# EAGLE library part TOUCH-CAT_CHIP-TOUCH-CAT (library Touch.Cat)
Copyrights: www.chip-brain.com If modified stay original creator www.chip-brain.com
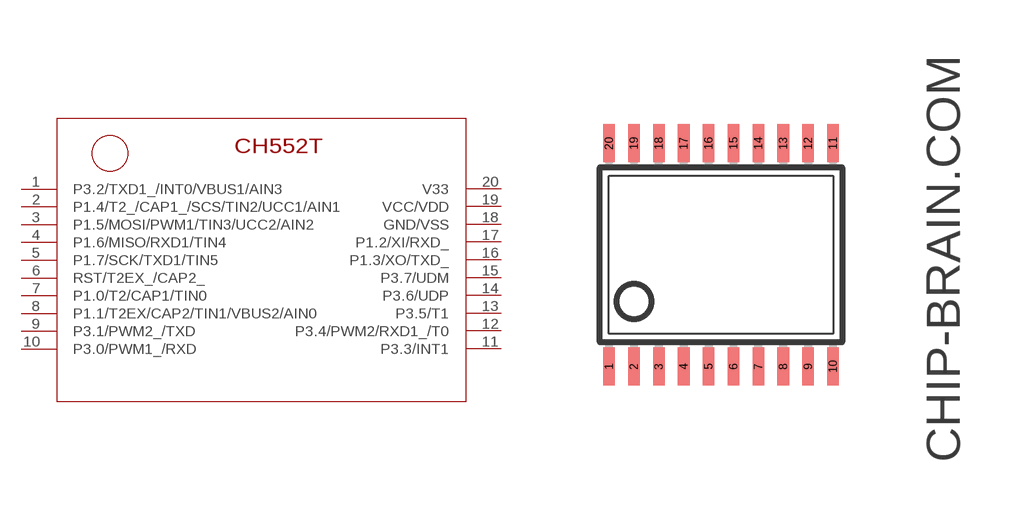
[diagram p0: symbol with the pads of TOUCH-CAT_TSSOP20; footprint TOUCH-CAT_TSSOP20]

Designator prefix -

## TOUCH-CAT_CHIP-TOUCH-CAT  [TOUCH-CAT_TSSOP20]
1  P3.2/TXD1_/INT0/VBUS1/AIN3
2  P1.4/T2_/CAP1_/SCS/TIN2/UCC1/AIN1
3  P1.5/MOSI/PWM1/TIN3/UCC2/AIN2
4  P1.6/MISO/RXD1/TIN4
5  P1.7/SCK/TXD1/TIN5
6  RST/T2EX_/CAP2_
7  P1.0/T2/CAP1/TIN0
8  P1.1/T2EX/CAP2/TIN1/VBUS2/AIN0
9  P3.1/PWM2_/TXD
10  P3.0/PWM1_/RXD
11  P3.3/INT1
12  P3.4/PWM2/RXD1_/T0
13  P3.5/T1
14  P3.6/UDP
15  P3.7/UDM
16  P1.3/XO/TXD_
17  P1.2/XI/RXD_
18  GND/VSS  pwr
19  VCC/VDD  pwr
20  V33  pwr

## Footprint TOUCH-CAT_TSSOP20 (pad centres in mm)
Thin Shrink Small Outline Plastic 20 MAX3223-MAX3243.pdf
smd 0.305 x 0.991: 1 -2.925,-2.918; 2 -2.275,-2.918; 3 -1.625,-2.918; 4 -0.975,-2.918; 5 -0.325,-2.918; 6 0.325,-2.918; 7 0.975,-2.918; 8 1.625,-2.918; 9 2.275,-2.918; 10 2.925,-2.918; 11 2.925,2.918; 12 2.275,2.918; 13 1.625,2.918; 14 0.975,2.918; 15 0.325,2.918; 16 -0.325,2.918; 17 -0.975,2.918; 18 -1.625,2.918; 19 -2.275,2.918; 20 -2.925,2.918